# EAGLE library part DMMT5401 (library zenpirate)
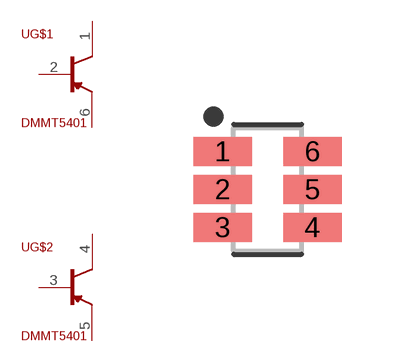
[diagram p10: symbol with the pads of SOT95P285X140-6; footprint SOT95P285X140-6]

Designator prefix -; gates G$1=PNP-TRANSISTOR G$2=PNP-TRANSISTOR

## DMMT5401SOT26  [SOT95P285X140-6]
1  G$1:C
2  G$1:B
3  G$2:B
4  G$2:C
5  G$2:E
6  G$1:E

## Footprint SOT95P285X140-6 (pad centres in mm)
6-SOT23, 0.95 mm pitch, 2.85 mm span, 3 X 1.6 X 1.4 mm body 6-pin SOT23 package with 0.95 mm pitch, 2.85 mm span with body size 3 X 1.6 X 1.4 mm
smd 1.47 x 0.722: 1 -1.125,0.95; 2 -1.125,0; 3 -1.125,-0.95; 4 1.125,-0.95; 5 1.125,0; 6 1.125,0.95